# EAGLE library part BLE-HM-10 (library Random parts)
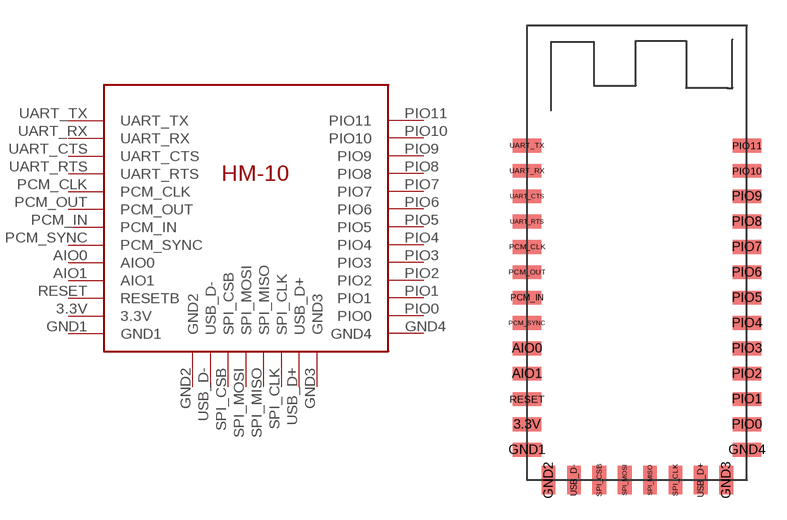
[diagram p0: symbol with the pads of BLE-HM-10; footprint BLE-HM-10]

Designator prefix -

## BLE-HM-10  [BLE-HM-10]
3.3V  3.3V
AIO0  AIO0
AIO1  AIO1
GND1  GND1
GND2  GND2
GND3  GND3
GND4  GND4
PCM_CLK  PCM_CLK
PCM_IN  PCM_IN
PCM_OUT  PCM_OUT
PCM_SYNC  PCM_SYNC
PIO0  PIO0
PIO1  PIO1
PIO2  PIO2
PIO3  PIO3
PIO4  PIO4
PIO5  PIO5
PIO6  PIO6
PIO7  PIO7
PIO8  PIO8
PIO9  PIO9
PIO10  PIO10
PIO11  PIO11
RESET  RESETB
SPI_CLK  SPI_CLK
SPI_CSB  SPI_CSB
SPI_MISO  SPI_MISO
SPI_MOSI  SPI_MOSI
UART_CTS  UART_CTS
UART_RTS  UART_RTS
UART_RX  UART_RX
UART_TX  UART_TX
USB_D+  USB_D+
USB_D-  USB_D-

## Footprint BLE-HM-10 (pad centres in mm)
smd 1.676 x 0.813: 3.3V 0,3.29; AIO0 0,7.79; AIO1 0,6.29; GND1 0,1.79; GND4 13,1.79; PCM_CLK 0,13.79; PCM_IN 0,10.79; PCM_OUT 0,12.29; PCM_SYNC 0,9.29; PIO0 13,3.29; PIO1 13,4.79; PIO2 13,6.29; PIO3 13,7.79; PIO4 13,9.29; PIO5 13,10.79; PIO6 13,12.29; PIO7 13,13.79; PIO8 13,15.29; PIO9 13,16.79; PIO10 13,18.29; PIO11 13,19.79; RESET 0,4.79; UART_CTS 0,16.79; UART_RTS 0,15.29; UART_RX 0,18.29; UART_TX 0,19.79
smd 0.813 x 1.676: GND2 1.27,0; GND3 11.77,0; SPI_CLK 8.77,0; SPI_CSB 4.27,0; SPI_MISO 7.27,0; SPI_MOSI 5.77,0; USB_D+ 10.27,0; USB_D- 2.77,0